# Altium schematic symbol library HDMI.SchLib: 1 symbol
Pins are listed as number, name and electrical type; pins without a type are passive.

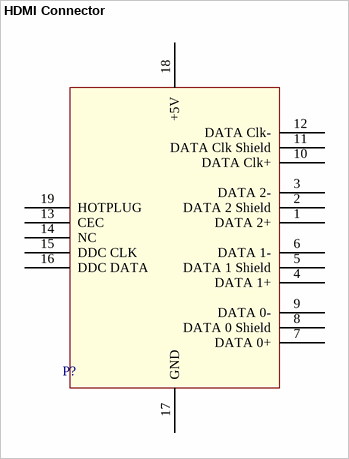
[diagram p0: symbol HDMI Connector]

## HDMI Connector
designator P?, comment HDMI  (value not drawn)
HDMI Connector; Manufacturer Part No.: 10029449-111RLF; Digi-Key Part No.: 609-4614-1-ND
footprint HDMI Connector (Amphenol HDMI Connector)
pins: 1 DATA 2+, 2 DATA 2 Shield, 3 DATA 2-, 4 DATA 1+, 5 DATA 1 Shield, 6 DATA 1-, 7 DATA 0+, 8 DATA 0 Shield, 9 DATA 0-, 10 DATA Clk+, 11 DATA Clk Shield, 12 DATA Clk-, 13 CEC, 14 NC, 15 DDC CLK, 16 DDC DATA, 17 GND, 18 +5V, 19 HOTPLUG